# Altium footprint library AMPHENOL_GTFP08432B1HR.PcbLib: 1 footprints
Each footprint in its own frame and in the unit in brackets; x right, y up, seen from the top. Pads: shape width x height; smd on the part's side, far side on the other; paste and mask are expansions set on the pad; w line width, h text height; cw(c..) or ccw(c..) is an arc to the next point about the centre after c.
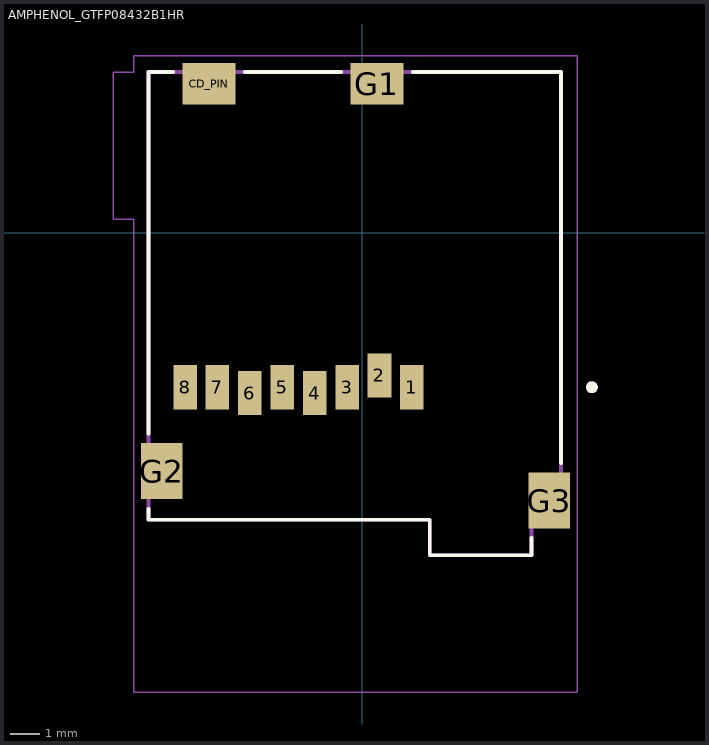
[diagram p0: the footprint, top view; thin cyan lines are the x and y axes]

## AMPHENOL_GTFP08432B1HR [mm]
height 1.85
pads (12):
  rect 0.8x1.5 smd: 1(1.69,-5.25) 2(0.59,-4.85) 3(-0.51,-5.25) 4(-1.61,-5.45) 5(-2.71,-5.25) 6(-3.81,-5.45) 7(-4.91,-5.25) 8(-6.01,-5.25)
  rect 1.8x1.4 smd: CD_PIN(-5.2,5.05) G1(0.5,5.05)
  rect 1.4x1.9 smd: G2(-6.8,-8.1) G3(6.35,-9.1)
Top Overlay:
  circle w0.2: c7.8,-5.25 r0.1
  lines w0.127: -7.25,-9.37 -7.25,-9.75 2.3,-9.75 2.3,-10.95 5.75,-10.95 5.75,-10.37 ; -7.25,-6.83 -7.25,5.45 -6.42,5.45 ; -3.98,5.45 -0.72,5.45 ; 1.72,5.45 6.75,5.45 6.75,-7.83
Mechanical 13:
  circle w0.2: c7.8,-5.25 r0.1
  lines w0.127: -7.25,-9.75 -7.25,5.45 6.75,5.45 6.75,-9.75 5.75,-9.75 5.75,-10.95 2.3,-10.95 2.3,-9.75 -7.25,-9.75
Mechanical 15:
  lines w0.05: -8.45,0.45 -8.45,5.45 -7.75,5.45 -7.75,6 7.3,6 7.3,-15.6 -7.75,-15.6 -7.75,0.45 -8.45,0.45
3D body "step_temp.STEP": height 1.92, standoff 0, extent -7.464,-10.922 6.956,5.528